# Altium footprint library F31W-1A7H1-11016.PcbLib: 1 footprints
Each footprint in its own frame and in the unit in brackets; x right, y up, seen from the top. Pads: shape width x height; smd on the part's side, far side on the other; paste and mask are expansions set on the pad; w line width, h text height; cw(c..) or ccw(c..) is an arc to the next point about the centre after c.
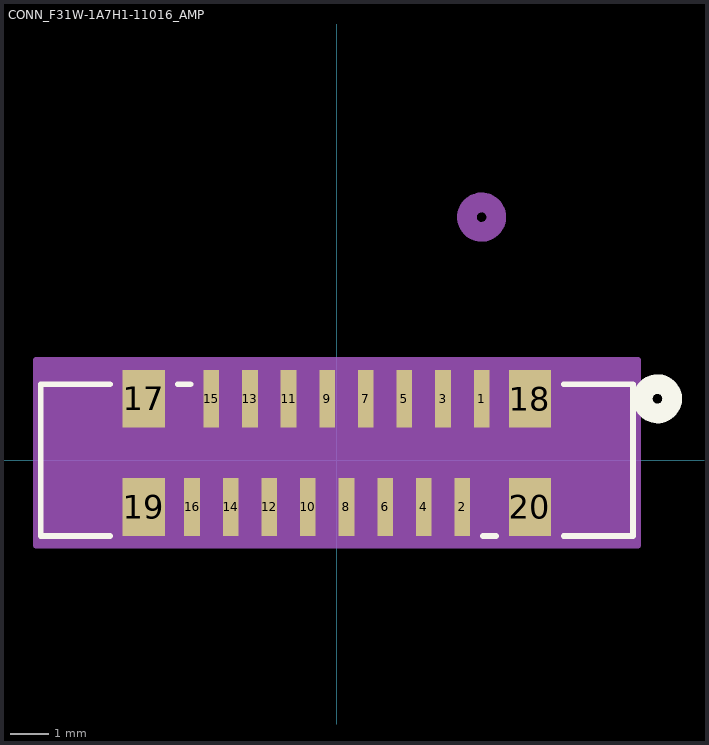
[diagram p0: the footprint, top view; thin cyan lines are the x and y axes]

## CONN_F31W-1A7H1-11016_AMP [mil]
pads (20):
  rect 16x59 smd paste+0 mask+0: 1(147.64,62.66) 2(127.95,-47.58) 3(108.27,62.66) 4(88.58,-47.58) 5(68.9,62.66) 6(49.21,-47.58) 7(29.53,62.66) 8(9.84,-47.58) 9(-9.84,62.66) 10(-29.53,-47.58) 11(-49.21,62.66) 12(-68.9,-47.58) 13(-88.58,62.66) 14(-108.27,-47.58) 15(-127.95,62.66) 16(-147.64,-47.58)
  rect 43x59 smd paste-29.5 mask-29.5: 17(-196.85,62.66) 18(196.85,62.66) 19(-196.85,-47.58) 20(196.85,-47.58)
Top Overlay:
  circle w20: c327,62.66 r15
  lines w6: -231.44,-77.5 -302,-77.5 -302,77.5 -231.45,77.5 ; -162.25,77.5 -149.05,77.5 ; 149.05,-77.5 162.26,-77.5 ; 231.44,-77.5 302,-77.5 302,77.5 231.45,77.5
Bottom Overlay:
  circle w20: c327,62.66 r15
Mechanical 13:
  circle w20: c147.64,247.89 r15
  lines w1: -297,-72.5 297,-72.5 297,72.5 -297,72.5 -297,-72.5
Mechanical 15:
  region: 307,102.16 -307,102.16 -307,-87.08 307,-87.08
  lines w6: -307,-87.08 -307,102.16 307,102.16 307,-87.08 -307,-87.08